# Altium schematic symbol library LED Drivers & Controllers.SchLib: 1 symbol
Pins are listed as number, name and electrical type; pins without a type are passive.

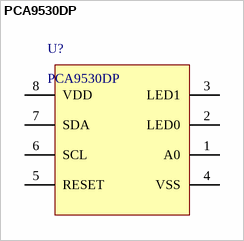
[diagram p0: symbol PCA9530DP]

## PCA9530DP
designator U?
footprint TSSOP8 (TSOP, 8-Leads, Body 3.00x3.00mm, Pitch 0.65mm, IPC High Density)
pins: 1 A0, 2 LED0, 3 LED1, 4 VSS, 5 RESET, 6 SCL, 7 SDA, 8 VDD